# Altium integrated library Motorola Power Mgt DC-DC Converter.IntLib: 28 symbols
Pins are listed as number, name and electrical type; pins without a type are passive.

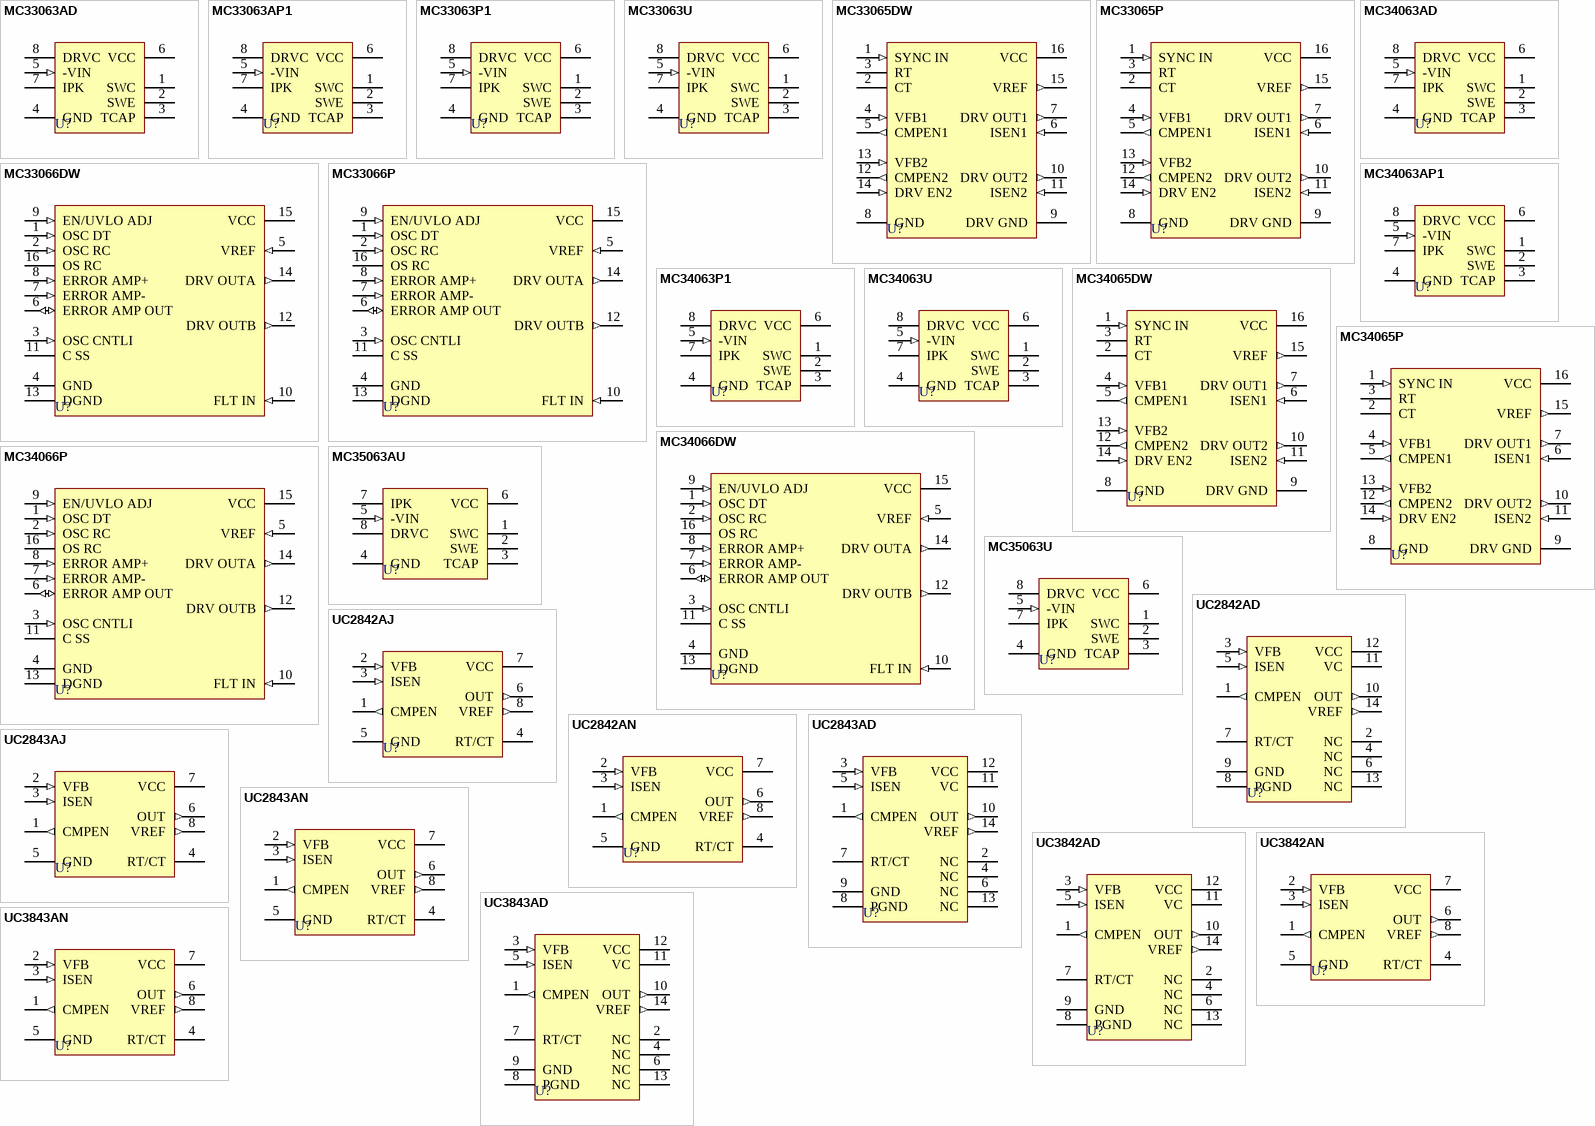
[diagram p0: symbols MC33063AD to UC3843AN]

## MC33063AD
designator U?
DC-to-DC Converter Control Circuit; Published: 17-Jul-2002; LatestRevisionDate: 13-Apr-2006; LatestRevisionNote: IPC-7351 Footprint Added.; DatasheetVersion: 1988; PackageReference: 751-02; Publisher: Altium Limited; PackageDescription: 8-Pin Small Outline Integrated Circuit 1.27 mm Pitch; Code_JEDEC: MS-012-AA; Code_IPC: SOIC127P600-8; ComponentLink1Description: Manufacturer Link; ComponentLink1URL: http://www.onsemi.com/site/products/taxonomy/0,4438,503,00.html; ComponentLink2Description: Datasheet; ComponentLink2URL: http://www.onsemi.com/pub/Collateral/MC34063A-D.PDF
footprint 751-02_N (SOIC, 8-Leads, Body 4.9x3.9mm, Pitch 1.27mm, IPC Medium Density)
footprint 751-02_L (SOIC, 8-Leads, Body 4.9x3.9mm, Pitch 1.27mm, IPC High Density)
footprint 751-02_M (SOIC, 8-Leads, Body 4.9x3.9mm, Pitch 1.27mm, IPC Low Density)
3D model 751-02 (8-Pin Small Outline Integrated Circuit 1.27 mm Pitch)
pins: 1 SWC (oc), 2 SWE (oe), 3 TCAP, 4 GND (power), 5 -VIN (in), 6 VCC (power), 7 IPK, 8 DRVC (oc)

## MC33063AP1
designator U?
DC-to-DC Converter Control Circuit; Published: 17-Jul-2002; LatestRevisionDate: 06-Jun-2005; LatestRevisionNote: Stylized 3D Model Added.; DatasheetVersion: 1988; PackageReference: 626-05; Publisher: Altium Limited; PackageDescription: DIP; 8 Leads; Row Spacing 7.62 mm; Pitch 2.54 mm; ComponentLink1Description: Manufacturer Link; ComponentLink1URL: http://www.onsemi.com/site/products/taxonomy/0,4438,503,00.html; ComponentLink2Description: Datasheet; ComponentLink2URL: http://www.onsemi.com/pub/Collateral/MC34063A-D.PDF
footprint 626-05 (DIP; 8 Leads; Row Spacing 7.62 mm; Pitch 2.54 mm)
3D model 626-05 (DIP; 8 Leads; Row Spacing 7.62 mm; Pitch 2.54 mm)
pins: 1 SWC (oc), 2 SWE (oe), 3 TCAP, 4 GND (power), 5 -VIN (in), 6 VCC (power), 7 IPK, 8 DRVC (oc)

## MC33063P1
designator U?
DC-to-DC Converter Control Circuit; Published: 17-Jul-2002; LatestRevisionDate: 06-Jun-2005; LatestRevisionNote: Stylized 3D Model Added.; DatasheetVersion: 1988; PackageReference: 626-05; Publisher: Altium Limited; PackageDescription: DIP; 8 Leads; Row Spacing 7.62 mm; Pitch 2.54 mm; ComponentLink1Description: Manufacturer Link; ComponentLink1URL: http://www.onsemi.com/site/products/taxonomy/0,4438,503,00.html
footprint 626-05 (DIP; 8 Leads; Row Spacing 7.62 mm; Pitch 2.54 mm)
3D model 626-05 (DIP; 8 Leads; Row Spacing 7.62 mm; Pitch 2.54 mm)
pins: 1 SWC (oc), 2 SWE (oe), 3 TCAP, 4 GND (power), 5 -VIN (in), 6 VCC (power), 7 IPK, 8 DRVC (oc)

## MC33063U
designator U?
DC-to-DC Converter Control Circuit; Published: 17-Jul-2002; LatestRevisionDate: 06-Jun-2005; LatestRevisionNote: Stylized 3D Model Added.; DatasheetVersion: 1988; PackageReference: 693-02; Publisher: Altium Limited; PackageDescription: DIP; 8 Leads; Row Spacing 7.62 mm; Pitch 2.54 mm; Code_JEDEC: MO-001-AN; ComponentLink1Description: Manufacturer Link; ComponentLink1URL: http://www.onsemi.com/site/products/taxonomy/0,4438,503,00.html
footprint 693-02 (DIP; 8 Leads; Row Spacing 7.62 mm; Pitch 2.54 mm)
3D model 693-02 (DIP; 8 Leads; Row Spacing 7.62 mm; Pitch 2.54 mm)
pins: 1 SWC (oc), 2 SWE (oe), 3 TCAP, 4 GND (power), 5 -VIN (in), 6 VCC (power), 7 IPK, 8 DRVC (oc)

## MC33065DW
designator U?
High-Performance Dual-Channel Current Mode Controller; Published: 17-Jul-2002; LatestRevisionDate: 13-Apr-2006; LatestRevisionNote: IPC-7351 Footprint Added.; DatasheetVersion: 1988; PackageReference: 751G-01; Publisher: Altium Limited; PackageDescription: 16-Pin Small Outline Integrated Circuit 1.27 mm Pitch; ComponentLink1Description: Manufacturer Link; ComponentLink1URL: http://www.onsemi.com/site/products/taxonomy/0,4438,503,00.html; ComponentLink2Description: Datasheet; ComponentLink2URL: http://www.onsemi.com/pub/Collateral/MC34065-H-D.PDF
footprint 751G-01_N (SOIC, 16-Leads, Body 10.3x7.5mm, Pitch 1.27mm, IPC Medium Density)
footprint 751G-01_L (SOIC, 16-Leads, Body 10.3x7.5mm, Pitch 1.27mm, IPC High Density)
footprint 751G-01_M (SOIC, 16-Leads, Body 10.3x7.5mm, Pitch 1.27mm, IPC Low Density)
3D model 751G-01 (16-Pin Small Outline Integrated Circuit 1.27 mm Pitch)
pins: 1 SYNC IN (in), 2 CT, 3 RT, 4 VFB1 (in), 5 CMPEN1 (out), 6 ISEN1 (in), 7 DRV OUT1 (out), 8 GND (power), 9 DRV GND (power), 10 DRV OUT2 (out), 11 ISEN2 (in), 12 CMPEN2 (out), 13 VFB2 (in), 14 DRV EN2 (in), 15 VREF (out), 16 VCC (power)

## MC33065P
designator U?
High-Performance Dual-Channel Current Mode Controller; Published: 17-Jul-2002; LatestRevisionDate: 06-Jun-2005; LatestRevisionNote: Stylized 3D Model Added.; DatasheetVersion: 1988; PackageReference: 648-06; Publisher: Altium Limited; PackageDescription: DIP; 16 Leads; Row Spacing 7.62 mm; Pitch 2.54 mm; ComponentLink1Description: Manufacturer Link; ComponentLink1URL: http://www.onsemi.com/site/products/taxonomy/0,4438,503,00.html; ComponentLink2Description: Datasheet; ComponentLink2URL: http://www.onsemi.com/pub/Collateral/MC34065-H-D.PDF
footprint 648-06 (DIP; 16 Leads; Row Spacing 7.62 mm; Pitch 2.54 mm)
3D model 648-06 (DIP; 16 Leads; Row Spacing 7.62 mm; Pitch 2.54 mm)
pins: 1 SYNC IN (in), 2 CT, 3 RT, 4 VFB1 (in), 5 CMPEN1 (out), 6 ISEN1 (in), 7 DRV OUT1 (out), 8 GND (power), 9 DRV GND (power), 10 DRV OUT2 (out), 11 ISEN2 (in), 12 CMPEN2 (out), 13 VFB2 (in), 14 DRV EN2 (in), 15 VREF (out), 16 VCC (power)

## MC33066DW
designator U?
High-Performance Resonant Mode Controller; Published: 28-Feb-2003; LatestRevisionDate: 13-Apr-2006; LatestRevisionNote: IPC-7351 Footprint Added.; DatasheetVersion: 1996, Rev. 1; PackageVersion: 1996; PackageReference: 751G-02; Publisher: Altium Limited; PackageDescription: 16-Pin Small Outline Integrated Circuit 1.27 mm Pitch; ComponentLink1Description: Manufacturer Link; ComponentLink1URL: http://www.onsemi.com/site/products/taxonomy/0,4438,503,00.html; ComponentLink2Description: Datasheet; ComponentLink2URL: http://www.onsemi.com/pub/Collateral/MC34066-D.PDF
footprint 751G-02_N (SOIC, 16-Leads, Body 10.3x7.5mm, Pitch 1.27mm, IPC Medium Density)
footprint 751G-02_L (SOIC, 16-Leads, Body 10.3x7.5mm, Pitch 1.27mm, IPC High Density)
footprint 751G-02_M (SOIC, 16-Leads, Body 10.3x7.5mm, Pitch 1.27mm, IPC Low Density)
3D model 751G-01 (16-Pin Small Outline Integrated Circuit 1.27 mm Pitch)
pins: 1 OSC DT (in), 2 OSC RC (in), 3 OSC CNTLI (in), 4 GND (power), 5 VREF (in), 6 ERROR AMP OUT (io), 7 ERROR AMP- (in), 8 ERROR AMP+ (in), 9 EN/UVLO ADJ (in), 10 FLT IN (in), 11 C SS, 12 DRV OUTB (out), 13 DGND (power), 14 DRV OUTA (out), 15 VCC (power), 16 OS RC

## MC33066P
designator U?
High-Performance Resonant Mode Controller; Published: 28-Feb-2003; LatestRevisionDate: 06-Jun-2005; LatestRevisionNote: Stylized 3D Model Added.; DatasheetVersion: 1996, Rev. 1; PackageReference: 648-08; Publisher: Altium Limited; PackageDescription: DIP; 16 Leads; Row Spacing 7.62 mm; Pitch 2.54 mm; Code_JEDEC: MS-001-BB; ComponentLink1Description: Manufacturer Link; ComponentLink1URL: http://www.onsemi.com/site/products/taxonomy/0,4438,503,00.html; ComponentLink2Description: Datasheet; ComponentLink2URL: http://www.onsemi.com/pub/Collateral/MC34066-D.PDF
footprint 648-08 (DIP; 16 Leads; Row Spacing 7.62 mm; Pitch 2.54 mm)
3D model 648-08 (DIP; 16 Leads; Row Spacing 7.62 mm; Pitch 2.54 mm)
pins: 1 OSC DT (in), 2 OSC RC (in), 3 OSC CNTLI (in), 4 GND (power), 5 VREF (in), 6 ERROR AMP OUT (io), 7 ERROR AMP- (in), 8 ERROR AMP+ (in), 9 EN/UVLO ADJ (in), 10 FLT IN (in), 11 C SS, 12 DRV OUTB (out), 13 DGND (power), 14 DRV OUTA (out), 15 VCC (power), 16 OS RC

## MC34063AD
designator U?
DC-to-DC Converter Control Circuit; Published: 17-Jul-2002; LatestRevisionDate: 13-Apr-2006; LatestRevisionNote: IPC-7351 Footprint Added.; DatasheetVersion: 1988; PackageReference: 751-02; Publisher: Altium Limited; PackageDescription: 8-Pin Small Outline Integrated Circuit 1.27 mm Pitch; Code_JEDEC: MS-012-AA; Code_IPC: SOIC127P600-8; ComponentLink1Description: Manufacturer Link; ComponentLink1URL: http://www.onsemi.com/site/products/taxonomy/0,4438,503,00.html; ComponentLink2Description: Datasheet; ComponentLink2URL: http://www.onsemi.com/pub/Collateral/MC34063A-D.PDF
footprint 751-02_N (SOIC, 8-Leads, Body 4.9x3.9mm, Pitch 1.27mm, IPC Medium Density)
footprint 751-02_L (SOIC, 8-Leads, Body 4.9x3.9mm, Pitch 1.27mm, IPC High Density)
footprint 751-02_M (SOIC, 8-Leads, Body 4.9x3.9mm, Pitch 1.27mm, IPC Low Density)
3D model 751-02 (8-Pin Small Outline Integrated Circuit 1.27 mm Pitch)
pins: 1 SWC (oc), 2 SWE (oe), 3 TCAP, 4 GND (power), 5 -VIN (in), 6 VCC (power), 7 IPK, 8 DRVC (oc)

## MC34063AP1
designator U?
DC-to-DC Converter Control Circuit; Published: 17-Jul-2002; LatestRevisionDate: 06-Jun-2005; LatestRevisionNote: Stylized 3D Model Added.; DatasheetVersion: 1988; PackageReference: 626-05; Publisher: Altium Limited; PackageDescription: DIP; 8 Leads; Row Spacing 7.62 mm; Pitch 2.54 mm; ComponentLink1Description: Manufacturer Link; ComponentLink1URL: http://www.onsemi.com/site/products/taxonomy/0,4438,503,00.html; ComponentLink2Description: Datasheet; ComponentLink2URL: http://www.onsemi.com/pub/Collateral/MC34063A-D.PDF
footprint 626-05 (DIP; 8 Leads; Row Spacing 7.62 mm; Pitch 2.54 mm)
3D model 626-05 (DIP; 8 Leads; Row Spacing 7.62 mm; Pitch 2.54 mm)
pins: 1 SWC (oc), 2 SWE (oe), 3 TCAP, 4 GND (power), 5 -VIN (in), 6 VCC (power), 7 IPK, 8 DRVC (oc)

## MC34063P1
designator U?
DC-to-DC Converter Control Circuit; Published: 17-Jul-2002; LatestRevisionDate: 06-Jun-2005; LatestRevisionNote: Stylized 3D Model Added.; DatasheetVersion: 1988; PackageReference: 626-05; Publisher: Altium Limited; PackageDescription: DIP; 8 Leads; Row Spacing 7.62 mm; Pitch 2.54 mm; ComponentLink1Description: Manufacturer Link; ComponentLink1URL: http://www.onsemi.com/site/products/taxonomy/0,4438,503,00.html
footprint 626-05 (DIP; 8 Leads; Row Spacing 7.62 mm; Pitch 2.54 mm)
3D model 626-05 (DIP; 8 Leads; Row Spacing 7.62 mm; Pitch 2.54 mm)
pins: 1 SWC (oc), 2 SWE (oe), 3 TCAP, 4 GND (power), 5 -VIN (in), 6 VCC (power), 7 IPK, 8 DRVC (oc)

## MC34063U
designator U?
DC-to-DC Converter Control Circuit; Published: 17-Jul-2002; LatestRevisionDate: 06-Jun-2005; LatestRevisionNote: Stylized 3D Model Added.; DatasheetVersion: 1988; PackageReference: 693-02; Publisher: Altium Limited; PackageDescription: DIP; 8 Leads; Row Spacing 7.62 mm; Pitch 2.54 mm; Code_JEDEC: MO-001-AN; ComponentLink1Description: Manufacturer Link; ComponentLink1URL: http://www.onsemi.com/site/products/taxonomy/0,4438,503,00.html
footprint 693-02 (DIP; 8 Leads; Row Spacing 7.62 mm; Pitch 2.54 mm)
3D model 693-02 (DIP; 8 Leads; Row Spacing 7.62 mm; Pitch 2.54 mm)
pins: 1 SWC (oc), 2 SWE (oe), 3 TCAP, 4 GND (power), 5 -VIN (in), 6 VCC (power), 7 IPK, 8 DRVC (oc)

## MC34065DW
designator U?
High-Performance Dual-Channel Current Mode Controller; Published: 17-Jul-2002; LatestRevisionDate: 13-Apr-2006; LatestRevisionNote: IPC-7351 Footprint Added.; DatasheetVersion: 1988; PackageReference: 751G-01; Publisher: Altium Limited; PackageDescription: 16-Pin Small Outline Integrated Circuit 1.27 mm Pitch; ComponentLink1Description: Manufacturer Link; ComponentLink1URL: http://www.onsemi.com/site/products/taxonomy/0,4438,503,00.html; ComponentLink2Description: Datasheet; ComponentLink2URL: http://www.onsemi.com/pub/Collateral/MC34065-H-D.PDF
footprint 751G-01_N (SOIC, 16-Leads, Body 10.3x7.5mm, Pitch 1.27mm, IPC Medium Density)
footprint 751G-01_L (SOIC, 16-Leads, Body 10.3x7.5mm, Pitch 1.27mm, IPC High Density)
footprint 751G-01_M (SOIC, 16-Leads, Body 10.3x7.5mm, Pitch 1.27mm, IPC Low Density)
3D model 751G-01 (16-Pin Small Outline Integrated Circuit 1.27 mm Pitch)
pins: 1 SYNC IN (in), 2 CT, 3 RT, 4 VFB1 (in), 5 CMPEN1 (out), 6 ISEN1 (in), 7 DRV OUT1 (out), 8 GND (power), 9 DRV GND (power), 10 DRV OUT2 (out), 11 ISEN2 (in), 12 CMPEN2 (out), 13 VFB2 (in), 14 DRV EN2 (in), 15 VREF (out), 16 VCC (power)

## MC34065P
designator U?
High-Performance Dual-Channel Current Mode Controller; Published: 17-Jul-2002; LatestRevisionDate: 06-Jun-2005; LatestRevisionNote: Stylized 3D Model Added.; DatasheetVersion: 1988; PackageReference: 648-06; Publisher: Altium Limited; PackageDescription: DIP; 16 Leads; Row Spacing 7.62 mm; Pitch 2.54 mm; ComponentLink1Description: Manufacturer Link; ComponentLink1URL: http://www.onsemi.com/site/products/taxonomy/0,4438,503,00.html; ComponentLink2Description: Datasheet; ComponentLink2URL: http://www.onsemi.com/pub/Collateral/MC34065-H-D.PDF
footprint 648-06 (DIP; 16 Leads; Row Spacing 7.62 mm; Pitch 2.54 mm)
3D model 648-06 (DIP; 16 Leads; Row Spacing 7.62 mm; Pitch 2.54 mm)
pins: 1 SYNC IN (in), 2 CT, 3 RT, 4 VFB1 (in), 5 CMPEN1 (out), 6 ISEN1 (in), 7 DRV OUT1 (out), 8 GND (power), 9 DRV GND (power), 10 DRV OUT2 (out), 11 ISEN2 (in), 12 CMPEN2 (out), 13 VFB2 (in), 14 DRV EN2 (in), 15 VREF (out), 16 VCC (power)

## MC34066DW
designator U?
High-Performance Resonant Mode Controller; Published: 28-Feb-2003; LatestRevisionDate: 13-Apr-2006; LatestRevisionNote: IPC-7351 Footprint Added.; DatasheetVersion: 1996, Rev. 1; PackageVersion: 1996; PackageReference: 751G-02; Publisher: Altium Limited; PackageDescription: 16-Pin Small Outline Integrated Circuit 1.27 mm Pitch; ComponentLink1Description: Manufacturer Link; ComponentLink1URL: http://www.onsemi.com/site/products/taxonomy/0,4438,503,00.html; ComponentLink2Description: Datasheet; ComponentLink2URL: http://www.onsemi.com/pub/Collateral/MC34066-D.PDF
footprint 751G-02_N (SOIC, 16-Leads, Body 10.3x7.5mm, Pitch 1.27mm, IPC Medium Density)
footprint 751G-02_L (SOIC, 16-Leads, Body 10.3x7.5mm, Pitch 1.27mm, IPC High Density)
footprint 751G-02_M (SOIC, 16-Leads, Body 10.3x7.5mm, Pitch 1.27mm, IPC Low Density)
3D model 751G-01 (16-Pin Small Outline Integrated Circuit 1.27 mm Pitch)
pins: 1 OSC DT (in), 2 OSC RC (in), 3 OSC CNTLI (in), 4 GND (power), 5 VREF (in), 6 ERROR AMP OUT (io), 7 ERROR AMP- (in), 8 ERROR AMP+ (in), 9 EN/UVLO ADJ (in), 10 FLT IN (in), 11 C SS, 12 DRV OUTB (out), 13 DGND (power), 14 DRV OUTA (out), 15 VCC (power), 16 OS RC

## MC34066P
designator U?
High-Performance Resonant Mode Controller; Published: 28-Feb-2003; LatestRevisionDate: 06-Jun-2005; LatestRevisionNote: Stylized 3D Model Added.; DatasheetVersion: 1996, Rev. 1; PackageReference: 648-08; Publisher: Altium Limited; PackageDescription: DIP; 16 Leads; Row Spacing 7.62 mm; Pitch 2.54 mm; Code_JEDEC: MS-001-BB; ComponentLink1Description: Manufacturer Link; ComponentLink1URL: http://www.onsemi.com/site/products/taxonomy/0,4438,503,00.html; ComponentLink2Description: Datasheet; ComponentLink2URL: http://www.onsemi.com/pub/Collateral/MC34066-D.PDF
footprint 648-08 (DIP; 16 Leads; Row Spacing 7.62 mm; Pitch 2.54 mm)
3D model 648-08 (DIP; 16 Leads; Row Spacing 7.62 mm; Pitch 2.54 mm)
pins: 1 OSC DT (in), 2 OSC RC (in), 3 OSC CNTLI (in), 4 GND (power), 5 VREF (in), 6 ERROR AMP OUT (io), 7 ERROR AMP- (in), 8 ERROR AMP+ (in), 9 EN/UVLO ADJ (in), 10 FLT IN (in), 11 C SS, 12 DRV OUTB (out), 13 DGND (power), 14 DRV OUTA (out), 15 VCC (power), 16 OS RC

## MC35063AU
designator U?
DC-to-DC Converter Control Circuit; Published: 17-Jul-2002; LatestRevisionDate: 06-Jun-2005; LatestRevisionNote: Stylized 3D Model Added.; DatasheetVersion: 1988; PackageReference: 693-02; Publisher: Altium Limited; PackageDescription: DIP; 8 Leads; Row Spacing 7.62 mm; Pitch 2.54 mm; Code_JEDEC: MO-001-AN; ComponentLink1Description: Manufacturer Link; ComponentLink1URL: http://www.onsemi.com/site/products/taxonomy/0,4438,503,00.html; ComponentLink2Description: Datasheet; ComponentLink2URL: http://www.onsemi.com/pub/Collateral/MC34063A-D.PDF
footprint 693-02 (DIP; 8 Leads; Row Spacing 7.62 mm; Pitch 2.54 mm)
3D model 693-02 (DIP; 8 Leads; Row Spacing 7.62 mm; Pitch 2.54 mm)
pins: 1 SWC (oc), 2 SWE (oe), 3 TCAP, 4 GND (power), 5 -VIN (in), 6 VCC (power), 7 IPK, 8 DRVC (oc)

## MC35063U
designator U?
DC-to-DC Converter Control Circuit; Published: 17-Jul-2002; LatestRevisionDate: 06-Jun-2005; LatestRevisionNote: Stylized 3D Model Added.; DatasheetVersion: 1988; PackageReference: 693-02; Publisher: Altium Limited; PackageDescription: DIP; 8 Leads; Row Spacing 7.62 mm; Pitch 2.54 mm; Code_JEDEC: MO-001-AN; ComponentLink1Description: Manufacturer Link; ComponentLink1URL: http://www.onsemi.com/site/products/taxonomy/0,4438,503,00.html
footprint 693-02 (DIP; 8 Leads; Row Spacing 7.62 mm; Pitch 2.54 mm)
3D model 693-02 (DIP; 8 Leads; Row Spacing 7.62 mm; Pitch 2.54 mm)
pins: 1 SWC (oc), 2 SWE (oe), 3 TCAP, 4 GND (power), 5 -VIN (in), 6 VCC (power), 7 IPK, 8 DRVC (oc)

## UC2842AD
designator U?
High-Performance Current Mode Controller; Published: 17-Jul-2002; LatestRevisionDate: 13-Apr-2006; LatestRevisionNote: IPC-7351 Footprint Added.; DatasheetVersion: 1988; PackageVersion: 1991; PackageReference: 751A-02; Publisher: Altium Limited; PackageDescription: 14-Pin Small Outline Integrated Circuit 1.27 mm Pitch; Code_IPC: SOIC127P600-14; ComponentLink1Description: Manufacturer Link; ComponentLink1URL: http://www.onsemi.com/site/products/taxonomy/0,4438,503,00.html; ComponentLink2Description: Datasheet; ComponentLink2URL: http://www.onsemi.com/pub/Collateral/UC3842A-D.PDF
footprint 751A-02_N (SOIC, 14-Leads, Body 8.7x3.9mm, Pitch 1.27mm, IPC Medium Density)
footprint 751A-02_L (SOIC, 14-Leads, Body 8.7x3.9mm, Pitch 1.27mm, IPC High Density)
footprint 751A-02_M (SOIC, 14-Leads, Body 8.7x3.9mm, Pitch 1.27mm, IPC Low Density)
3D model 751A-02 (14-Pin Small Outline Integrated Circuit 1.27 mm Pitch)
pins: 1 CMPEN (out), 2 NC, 3 VFB (in), 4 NC, 5 ISEN (in), 6 NC, 7 RT/CT, 8 PGND (power), 9 GND (power), 10 OUT (out), 11 VC (power), 12 VCC (power), 13 NC, 14 VREF (out)

## UC2842AJ
designator U?
High-Performance Current Mode Controller; Published: 17-Jul-2002; LatestRevisionDate: 06-Jun-2005; LatestRevisionNote: Stylized 3D Model Added.; DatasheetVersion: 1988; PackageReference: 693-02; Publisher: Altium Limited; PackageDescription: DIP; 8 Leads; Row Spacing 7.62 mm; Pitch 2.54 mm; Code_JEDEC: MO-001-AN; ComponentLink1Description: Manufacturer Link; ComponentLink1URL: http://www.onsemi.com/site/products/taxonomy/0,4438,503,00.html; ComponentLink2Description: Datasheet; ComponentLink2URL: http://www.onsemi.com/pub/Collateral/UC3842A-D.PDF
footprint 693-02 (DIP; 8 Leads; Row Spacing 7.62 mm; Pitch 2.54 mm)
3D model 693-02 (DIP; 8 Leads; Row Spacing 7.62 mm; Pitch 2.54 mm)
pins: 1 CMPEN (out), 2 VFB (in), 3 ISEN (in), 4 RT/CT, 5 GND (power), 6 OUT (out), 7 VCC (power), 8 VREF (out)

## UC2842AN
designator U?
High-Performance Current Mode Controller; Published: 17-Jul-2002; LatestRevisionDate: 06-Jun-2005; LatestRevisionNote: Stylized 3D Model Added.; DatasheetVersion: 1988; PackageReference: 626-05; Publisher: Altium Limited; PackageDescription: DIP; 8 Leads; Row Spacing 7.62 mm; Pitch 2.54 mm; ComponentLink1Description: Manufacturer Link; ComponentLink1URL: http://www.onsemi.com/site/products/taxonomy/0,4438,503,00.html; ComponentLink2Description: Datasheet; ComponentLink2URL: http://www.onsemi.com/pub/Collateral/UC3842A-D.PDF
footprint 626-05 (DIP; 8 Leads; Row Spacing 7.62 mm; Pitch 2.54 mm)
3D model 626-05 (DIP; 8 Leads; Row Spacing 7.62 mm; Pitch 2.54 mm)
pins: 1 CMPEN (out), 2 VFB (in), 3 ISEN (in), 4 RT/CT, 5 GND (power), 6 OUT (out), 7 VCC (power), 8 VREF (out)

## UC2843AD
designator U?
High-Performance Current Mode Controller; Published: 17-Jul-2002; LatestRevisionDate: 13-Apr-2006; LatestRevisionNote: IPC-7351 Footprint Added.; DatasheetVersion: 1988; PackageVersion: 1991; PackageReference: 751A-02; Publisher: Altium Limited; PackageDescription: 14-Pin Small Outline Integrated Circuit 1.27 mm Pitch; Code_IPC: SOIC127P600-14; ComponentLink1Description: Manufacturer Link; ComponentLink1URL: http://www.onsemi.com/site/products/taxonomy/0,4438,503,00.html; ComponentLink2Description: Datasheet; ComponentLink2URL: http://www.onsemi.com/pub/Collateral/UC3842A-D.PDF
footprint 751A-02_N (SOIC, 14-Leads, Body 8.7x3.9mm, Pitch 1.27mm, IPC Medium Density)
footprint 751A-02_L (SOIC, 14-Leads, Body 8.7x3.9mm, Pitch 1.27mm, IPC High Density)
footprint 751A-02_M (SOIC, 14-Leads, Body 8.7x3.9mm, Pitch 1.27mm, IPC Low Density)
3D model 751A-02 (14-Pin Small Outline Integrated Circuit 1.27 mm Pitch)
pins: 1 CMPEN (out), 2 NC, 3 VFB (in), 4 NC, 5 ISEN (in), 6 NC, 7 RT/CT, 8 PGND (power), 9 GND (power), 10 OUT (out), 11 VC (power), 12 VCC (power), 13 NC, 14 VREF (out)

## UC2843AJ
designator U?
High-Performance Current Mode Controller; Published: 17-Jul-2002; LatestRevisionDate: 06-Jun-2005; LatestRevisionNote: Stylized 3D Model Added.; DatasheetVersion: 1988; PackageReference: 693-02; Publisher: Altium Limited; PackageDescription: DIP; 8 Leads; Row Spacing 7.62 mm; Pitch 2.54 mm; Code_JEDEC: MO-001-AN; ComponentLink1Description: Manufacturer Link; ComponentLink1URL: http://www.onsemi.com/site/products/taxonomy/0,4438,503,00.html; ComponentLink2Description: Datasheet; ComponentLink2URL: http://www.onsemi.com/pub/Collateral/UC3842A-D.PDF
footprint 693-02 (DIP; 8 Leads; Row Spacing 7.62 mm; Pitch 2.54 mm)
3D model 693-02 (DIP; 8 Leads; Row Spacing 7.62 mm; Pitch 2.54 mm)
pins: 1 CMPEN (out), 2 VFB (in), 3 ISEN (in), 4 RT/CT, 5 GND (power), 6 OUT (out), 7 VCC (power), 8 VREF (out)

## UC2843AN
designator U?
High-Performance Current Mode Controller; Published: 17-Jul-2002; LatestRevisionDate: 06-Jun-2005; LatestRevisionNote: Stylized 3D Model Added.; DatasheetVersion: 1988; PackageReference: 626-05; Publisher: Altium Limited; PackageDescription: DIP; 8 Leads; Row Spacing 7.62 mm; Pitch 2.54 mm; ComponentLink1Description: Manufacturer Link; ComponentLink1URL: http://www.onsemi.com/site/products/taxonomy/0,4438,503,00.html; ComponentLink2Description: Datasheet; ComponentLink2URL: http://www.onsemi.com/pub/Collateral/UC3842A-D.PDF
footprint 626-05 (DIP; 8 Leads; Row Spacing 7.62 mm; Pitch 2.54 mm)
3D model 626-05 (DIP; 8 Leads; Row Spacing 7.62 mm; Pitch 2.54 mm)
pins: 1 CMPEN (out), 2 VFB (in), 3 ISEN (in), 4 RT/CT, 5 GND (power), 6 OUT (out), 7 VCC (power), 8 VREF (out)

## UC3842AD
designator U?
High-Performance Current Mode Controller; Published: 17-Jul-2002; LatestRevisionDate: 13-Apr-2006; LatestRevisionNote: IPC-7351 Footprint Added.; DatasheetVersion: 1988; PackageVersion: 1991; PackageReference: 751A-02; Publisher: Altium Limited; PackageDescription: 14-Pin Small Outline Integrated Circuit 1.27 mm Pitch; Code_IPC: SOIC127P600-14; ComponentLink1Description: Manufacturer Link; ComponentLink1URL: http://www.onsemi.com/site/products/taxonomy/0,4438,503,00.html; ComponentLink2Description: Datasheet; ComponentLink2URL: http://www.onsemi.com/pub/Collateral/UC3842A-D.PDF
footprint 751A-02_N (SOIC, 14-Leads, Body 8.7x3.9mm, Pitch 1.27mm, IPC Medium Density)
footprint 751A-02_L (SOIC, 14-Leads, Body 8.7x3.9mm, Pitch 1.27mm, IPC High Density)
footprint 751A-02_M (SOIC, 14-Leads, Body 8.7x3.9mm, Pitch 1.27mm, IPC Low Density)
3D model 751A-02 (14-Pin Small Outline Integrated Circuit 1.27 mm Pitch)
pins: 1 CMPEN (out), 2 NC, 3 VFB (in), 4 NC, 5 ISEN (in), 6 NC, 7 RT/CT, 8 PGND (power), 9 GND (power), 10 OUT (out), 11 VC (power), 12 VCC (power), 13 NC, 14 VREF (out)

## UC3842AN
designator U?
High-Performance Current Mode Controller; Published: 17-Jul-2002; LatestRevisionDate: 06-Jun-2005; LatestRevisionNote: Stylized 3D Model Added.; DatasheetVersion: 1988; PackageReference: 626-05; Publisher: Altium Limited; PackageDescription: DIP; 8 Leads; Row Spacing 7.62 mm; Pitch 2.54 mm; ComponentLink1Description: Manufacturer Link; ComponentLink1URL: http://www.onsemi.com/site/products/taxonomy/0,4438,503,00.html; ComponentLink2Description: Datasheet; ComponentLink2URL: http://www.onsemi.com/pub/Collateral/UC3842A-D.PDF
footprint 626-05 (DIP; 8 Leads; Row Spacing 7.62 mm; Pitch 2.54 mm)
3D model 626-05 (DIP; 8 Leads; Row Spacing 7.62 mm; Pitch 2.54 mm)
pins: 1 CMPEN (out), 2 VFB (in), 3 ISEN (in), 4 RT/CT, 5 GND (power), 6 OUT (out), 7 VCC (power), 8 VREF (out)

## UC3843AD
designator U?
High-Performance Current Mode Controller; Published: 17-Jul-2002; LatestRevisionDate: 13-Apr-2006; LatestRevisionNote: IPC-7351 Footprint Added.; DatasheetVersion: 1988; PackageVersion: 1991; PackageReference: 751A-02; Publisher: Altium Limited; PackageDescription: 14-Pin Small Outline Integrated Circuit 1.27 mm Pitch; Code_IPC: SOIC127P600-14; ComponentLink1Description: Manufacturer Link; ComponentLink1URL: http://www.onsemi.com/site/products/taxonomy/0,4438,503,00.html; ComponentLink2Description: Datasheet; ComponentLink2URL: http://www.onsemi.com/pub/Collateral/UC3842A-D.PDF
footprint 751A-02_N (SOIC, 14-Leads, Body 8.7x3.9mm, Pitch 1.27mm, IPC Medium Density)
footprint 751A-02_L (SOIC, 14-Leads, Body 8.7x3.9mm, Pitch 1.27mm, IPC High Density)
footprint 751A-02_M (SOIC, 14-Leads, Body 8.7x3.9mm, Pitch 1.27mm, IPC Low Density)
3D model 751A-02 (14-Pin Small Outline Integrated Circuit 1.27 mm Pitch)
pins: 1 CMPEN (out), 2 NC, 3 VFB (in), 4 NC, 5 ISEN (in), 6 NC, 7 RT/CT, 8 PGND (power), 9 GND (power), 10 OUT (out), 11 VC (power), 12 VCC (power), 13 NC, 14 VREF (out)

## UC3843AN
designator U?
High-Performance Current Mode Controller; Published: 17-Jul-2002; LatestRevisionDate: 06-Jun-2005; LatestRevisionNote: Stylized 3D Model Added.; DatasheetVersion: 1988; PackageReference: 626-05; Publisher: Altium Limited; PackageDescription: DIP; 8 Leads; Row Spacing 7.62 mm; Pitch 2.54 mm; ComponentLink1Description: Manufacturer Link; ComponentLink1URL: http://www.onsemi.com/site/products/taxonomy/0,4438,503,00.html; ComponentLink2Description: Datasheet; ComponentLink2URL: http://www.onsemi.com/pub/Collateral/UC3842A-D.PDF
footprint 626-05 (DIP; 8 Leads; Row Spacing 7.62 mm; Pitch 2.54 mm)
3D model 626-05 (DIP; 8 Leads; Row Spacing 7.62 mm; Pitch 2.54 mm)
pins: 1 CMPEN (out), 2 VFB (in), 3 ISEN (in), 4 RT/CT, 5 GND (power), 6 OUT (out), 7 VCC (power), 8 VREF (out)